# Altium footprint library MLACHT_Z.PCBLIB: 150 footprints (part 4 of 10)
Each footprint in its own frame and in the unit in brackets; x right, y up, seen from the top. Pads: shape width x height; smd on the part's side, far side on the other; paste and mask are expansions set on the pad; w line width, h text height; cw(c..) or ccw(c..) is an arc to the next point about the centre after c.
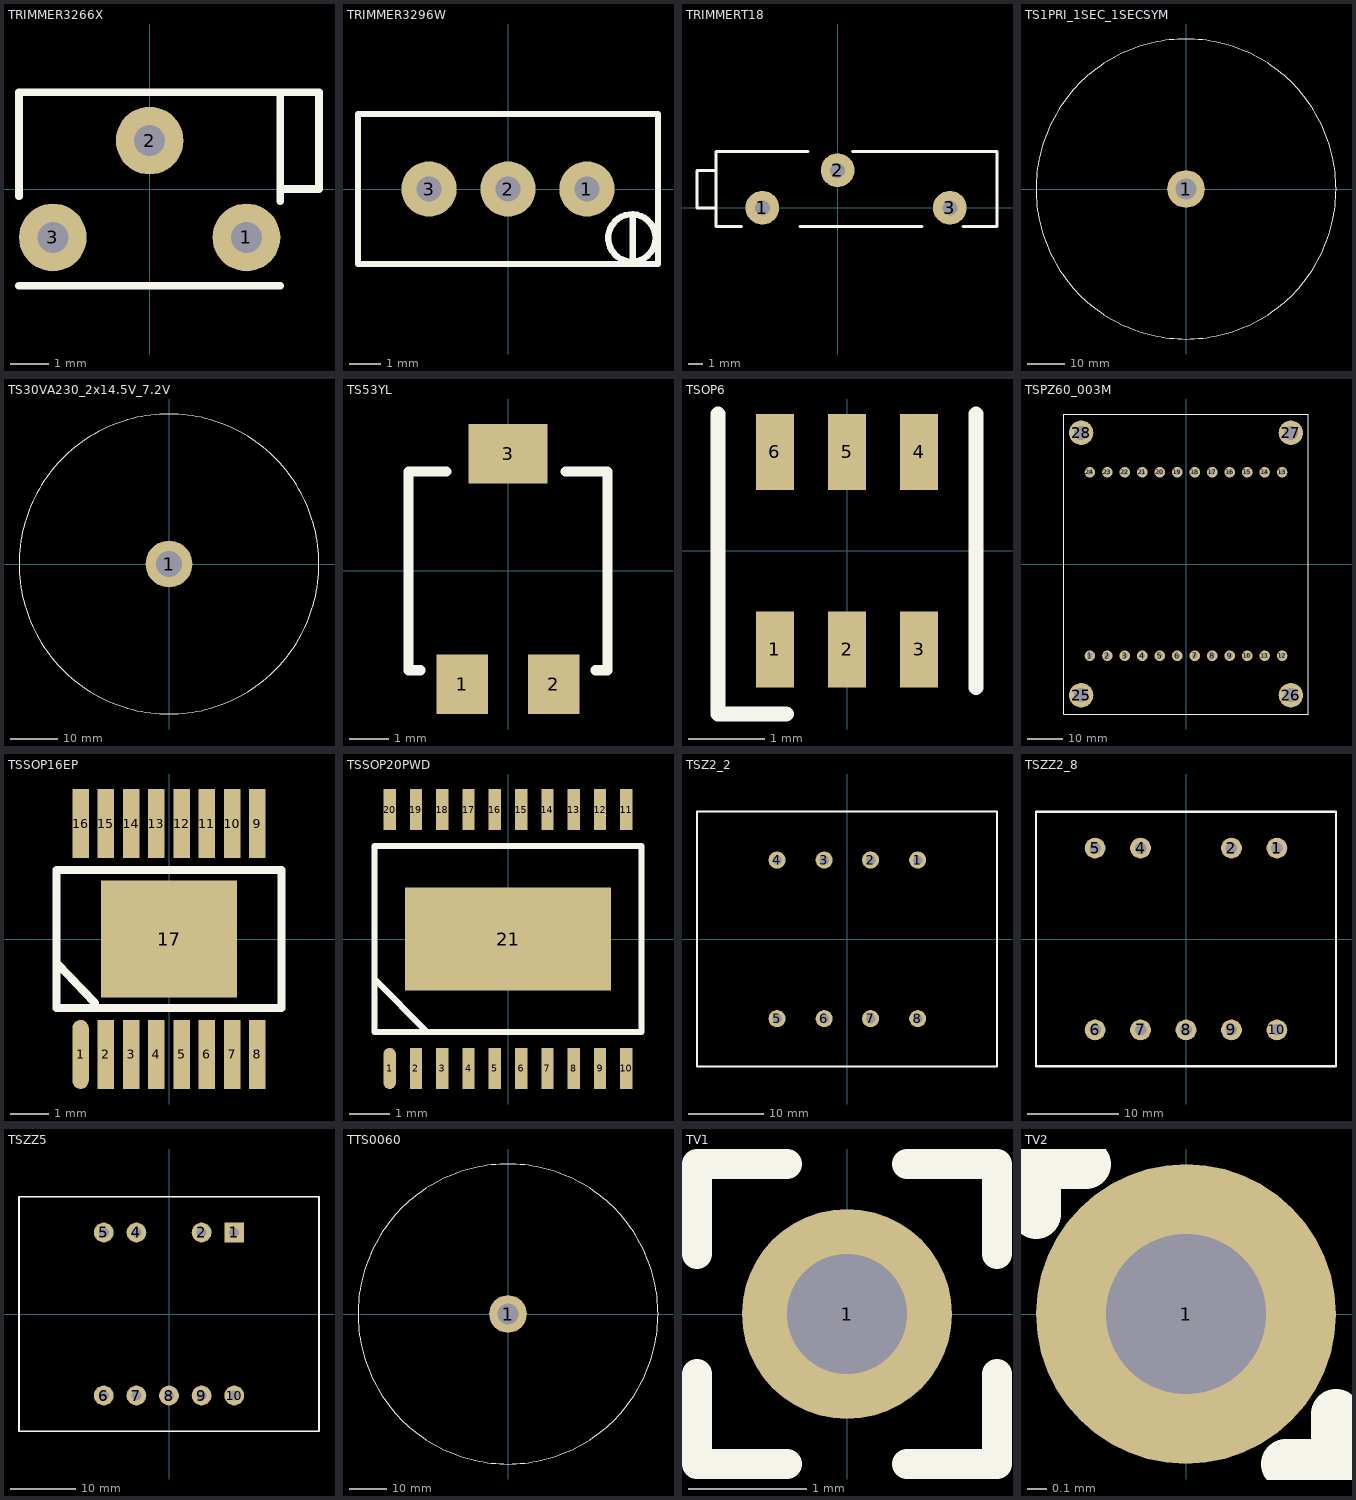
[diagram p3: the footprints below, top view; thin cyan lines are the x and y axes]

## TRIMMER3266X [mil]
pads (3):
  round 70 hole 32: 1(100,-50) 2(0,50) 3(-100,-50)
TopOverlay:
  lines w8: -135,-100 135,-100 ; -135,-7.52 -135,100 135,100 ; 135,-12.6 135,100 ; 135,0 175,0 175,100 135,100
3D body: height 270.98, standoff 201.18, extent 133.86,12.27 174.02,82.21
3D body: height 0, standoff -118.11, extent -13.78,36.22 13.78,63.78
3D body: height 0, standoff -118.11, extent -113.78,-63.78 -86.22,-36.22
3D body: height 0, standoff -118.11, extent 86.22,-63.78 113.78,-36.22
3D body: height 285.04, standoff 0, extent -135,-100 135,100

## TRIMMER3296W [mil]
pads (3):
  round 70 hole 32: 1(100,0) 2(0,0) 3(-100,0)
TopOverlay:
  circle w8: c157,-62 r30
  lines w8: 158,-95 158,-32 ; -190,-95 190,-95 190,95 -190,95 -190,-95
3D body: height 393.7, standoff 0, extent -190,-95 190,95
3D body: height 453.54, standoff 393.7, extent 125.98,-95 188.73,-32.13

## TRIMMERT18 [mil]
pads (3):
  round 90 hole 40: 1(-200.79,0) 2(0,100) 3(299.21,0)
TopOverlay:
  lines w8: -325,0 -375,0 -375,100 -325,100 ; -255.91,-50 -325,-50 -325,150 -78.74,150 ; -100,-50 225,-50 ; 39.37,150 425,150 425,-50 334.65,-50
3D body: height 251.97, standoff 0, extent -325,-50 425,150
3D body: height 237.8, standoff 139.76, extent -375,0.88 -296.26,99.12

## TS1PRI_1SEC_1SECSYM [mm]
pads (1):
  round 10 hole 5.5: 1(0,0)
TopOverlay:
  circle w0.2: c0,0 r40
3D body: height 36, standoff 0, extent -40,-40 39.685,39.842

## TS30VA230_2x14.5V_7.2V [mm]
pads (1):
  round 10 hole 5.5: 1(0,0)
TopOverlay:
  circle w0.2: c0,0 r32
3D body: height 32, standoff 0, extent -31.748,-31.937 32,31.937

## TS53YL [mm]
pads (3):
  rect 1.3x1.5 smd: 1(-1.15,-2.85) 2(1.15,-2.85)
  rect 2x1.5 smd: 3(0,2.95)
TopOverlay:
  lines w0.254: -2.2,-2.5 -2.5,-2.5 -2.5,2.5 -1.55,2.5 ; 1.45,2.5 2.5,2.5 2.5,-2.5 2.2,-2.5
3D body: height 2.7, standoff 0.2, extent -2.5,-2.5 2.5,2.5
3D body: height 0.2, standoff 0, extent -1.6,-3.2 -0.7,-2.5
3D body: height 0.2, standoff 0, extent 0.7,-3.2 1.6,-2.5
3D body: height 1.3, standoff 0, extent -1.6,-2.7 -0.7,-2.5
3D body: height 1.3, standoff 0, extent 0.7,-2.7 1.6,-2.5
3D body: height 1.3, standoff 0, extent -0.5,2.5 0.5,2.7
3D body: height 0.2, standoff 0, extent -0.5,2.5 0.5,3.2
3D body: height 2.9, standoff 1, extent -1.3,-1.3 1.29,1.295
3D body: height 3, standoff 2, extent -1,-1 1,1

## TSOP6 [mm]
pads (6):
  rect 0.5x1 smd: 1(-0.95,-1.3) 2(0,-1.3) 3(0.95,-1.3) 4(0.95,1.3) 5(0,1.3) 6(-0.95,1.3)
TopOverlay:
  lines w0.2: -1.7,1.8 -1.7,-2.15 -0.8,-2.15 ; 1.7,-1.8 1.7,1.8
3D body: height 1.1, standoff 0, extent -1.5,-0.8 1.5,0.8
3D body: height 0.15, standoff 0, extent -0.2,-1.5 0.2,-0.8
3D body: height 0.15, standoff 0, extent -1.15,-1.5 -0.75,-0.8
3D body: height 0.15, standoff 0, extent 0.75,-1.5 1.15,-0.8
3D body: height 0.15, standoff 0, extent 0.75,0.8 1.15,1.5
3D body: height 0.15, standoff 0, extent -0.2,0.8 0.2,1.5
3D body: height 0.15, standoff 0, extent -1.15,0.8 -0.75,1.5

## TSPZ60_003M [mm]
pads (28):
  round 3 hole 1.5: 1(-27.5,-26.25) 2(-22.5,-26.25) 3(-17.5,-26.25) 4(-12.5,-26.25) 5(-7.5,-26.25) 6(-2.5,-26.25) 7(2.5,-26.25) 8(7.5,-26.25) 9(12.5,-26.25) 10(17.5,-26.25) 11(22.5,-26.25) 12(27.5,-26.25) 13(27.5,26.25) 14(22.5,26.25) 15(17.5,26.25) 16(12.5,26.25) 17(7.5,26.25) 18(2.5,26.25) 19(-2.5,26.25) 20(-7.5,26.25) 21(-12.5,26.25) 22(-17.5,26.25) 23(-22.5,26.25) 24(-27.5,26.25)
  round 7 hole 4: 25(-30,-37.5) 26(30,-37.5) 27(30,37.5) 28(-30,37.5)
TopOverlay:
  lines w0.3: -34.9,-42.9 34.9,-42.9 34.9,42.9 -34.9,42.9 -34.9,-42.9
3D body: height 48.3, standoff 0, extent -34.899,-42.899 34.899,42.899

## TSSOP16EP [mm]
pads (17):
  oval 0.42x1.78 smd mask+0.254: 1(-2.275,-2.97)
  rect 0.42x1.78 smd mask+0.254: 2(-1.625,-2.97) 3(-0.975,-2.97) 4(-0.325,-2.97) 5(0.325,-2.97) 6(0.975,-2.97) 7(1.625,-2.97) 8(2.275,-2.97) 9(2.275,2.97) 10(1.625,2.97) 11(0.975,2.97) 12(0.325,2.97) 13(-0.325,2.97) 14(-0.975,2.97) 15(-1.625,2.97) 16(-2.275,2.97)
  rect 3.5x3 smd mask+0.508: 17(0,0)
TopOverlay:
  lines w0.203: -2.893,-0.608 -1.902,-1.648 ; -2.9,-1.778 -2.9,1.778 2.9,1.778 2.9,-1.778 -2.9,-1.778

## TSSOP20PWD [mil]
pads (21):
  oval 12x40 smd: 1(-115.16,-125.98)
  rect 12x40 smd: 2(-89.57,-125.98) 3(-63.98,-125.98) 4(-38.39,-125.98) 5(-12.8,-125.98) 6(12.8,-125.98) 7(38.39,-125.98) 8(63.98,-125.98) 9(89.57,-125.98) 10(115.16,-125.98) 11(115.16,125.98) 12(89.57,125.98) 13(63.98,125.98) 14(38.39,125.98) 15(12.8,125.98) 16(-12.8,125.98) 17(-38.39,125.98) 18(-63.98,125.98) 19(-89.57,125.98) 20(-115.16,125.98)
  rect 200x100 smd: 21(0,0)
TopOverlay:
  lines w6: -129.92,-39.37 -78.74,-90.55 ; -129.92,-90.55 129.92,-90.55 129.92,90.55 -129.92,90.55 -129.92,-90.55

## TSZ2_2 [mil]
pads (8):
  round 90 hole 50: 1(370.08,417.32) 2(122.05,417.32) 3(-122.05,417.32) 4(-370.08,417.32) 5(-370.08,-417.32) 6(-122.05,-417.32) 7(122.05,-417.32) 8(370.08,-417.32)
TopOverlay:
  lines w10: -791.34,-669.29 787.4,-669.29 787.4,673.23 -791.34,673.23 -791.34,-669.29

## TSZZ2_8 [mil]
pads (9):
  round 90 hole 50: 1(393.7,393.7) 2(196.85,393.7) 4(-196.85,393.7) 5(-393.7,393.7) 6(-393.7,-393.7) 7(-196.85,-393.7) 8(0,-393.7) 9(196.85,-393.7) 10(393.7,-393.7)
TopOverlay:
  lines w10: -649.61,-551.18 649.61,-551.18 649.61,551.18 -649.61,551.18 -649.61,-551.18

## TSZZ5 [mil]
pads (9):
  rect 120x120 hole 60: 1(393.7,492.13)
  round 120 hole 60: 2(196.85,492.13) 4(-196.85,492.13) 5(-393.7,492.13) 6(-393.7,-492.13) 7(-196.85,-492.13) 8(0,-492.13) 9(196.85,-492.13) 10(393.7,-492.13)
TopOverlay:
  lines w10: -905.51,-708.66 905.51,-708.66 905.51,708.66 -905.51,708.66 -905.51,-708.66

## TTS0060 [mm]
pads (1):
  round 10 hole 5.5: 1(0,0)
TopOverlay:
  circle w0.2: c0,0 r40
3D body: height 36, standoff 0, extent -40,-40 39.685,39.842

## TV1 [mil]
pads (1):
  round 70 hole 40: 1(0,0)
TopOverlay:
  lines w10: -50,-20 -50,-50 -20,-50 ; -50,20 -50,50 -20,50 ; 20,-50 50,-50 50,-20 ; 20,50 50,50 50,20

## TV2 [mil]
pads (1):
  round 60 hole 32: 1(0,0)
TopOverlay:
  lines w10: -30,20 -30,30 -20,30 ; 20,-30 30,-30 30,-20